# Altium schematic symbol library 2171790001.SchLib: 2 symbols
Pins are listed as number, name and electrical type; pins without a type are passive.

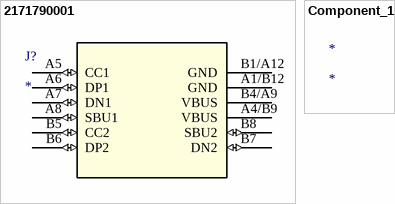
[diagram p0: symbols 2171790001 to Component_1]

## 2171790001
designator J?
No Description Available; Mfr_Name: Molex Connector Corporation; RefDes: RefDes; Type: Type
footprint 2171790001_MOL
pins: A1/B12 GND (power), A4/B9 VBUS (power), A5 CC1 (io), A6 DP1 (io), A7 DN1 (io), A8 SBU1 (io), B1/A12 GND (power), B4/A9 VBUS (power), B5 CC2 (io), B6 DP2 (io), B7 DN2 (io), B8 SBU2 (io)

## Component_1
designator *